# Altium schematic symbol library Res_Stackpole_RMCF0603FT220R_eec.SchLib: 1 symbol
Pins are listed as number, name and electrical type; pins without a type are passive.

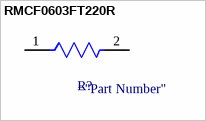
[diagram p0: symbol RMCF0603FT220R]

## RMCF0603FT220R
designator R?  (value not drawn)
pins: 1, 2